# Altium footprint library PogoPinConnPitch2mm3PinSMDHorizontal.PcbLib: 1 footprints
Each footprint in its own frame and in the unit in brackets; x right, y up, seen from the top. Pads: shape width x height; smd on the part's side, far side on the other; paste and mask are expansions set on the pad; w line width, h text height; cw(c..) or ccw(c..) is an arc to the next point about the centre after c.
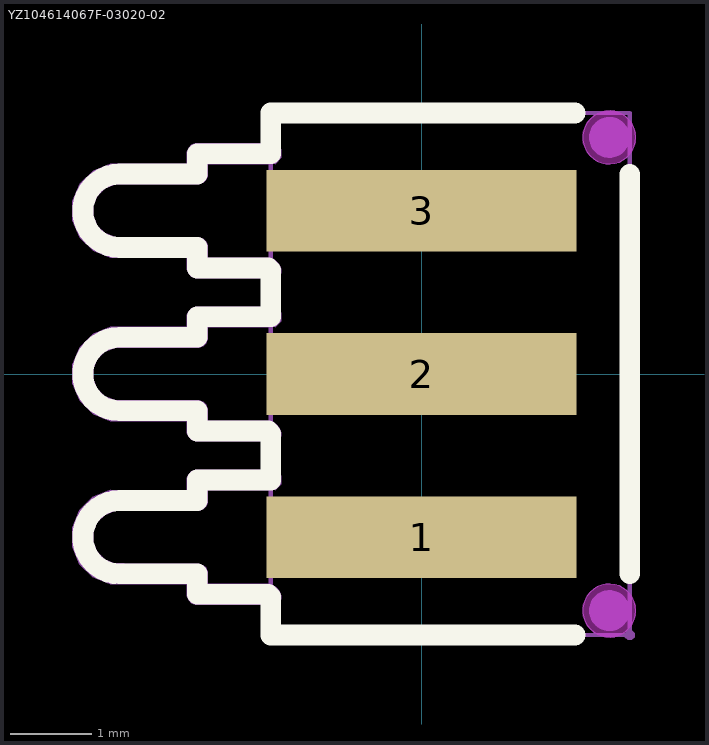
[diagram p0: the footprint, top view; thin cyan lines are the x and y axes]

## YZ104614067F-03020-02 [mm] "Pogo pin connector, Pitch 2mm, SMD, Rectangular Angle, 3 Pins, Male"
pads (3):
  rect 3.8x1 smd paste+0 mask+0.05: 1(0,-2) 2(0,0) 3(0,2)
Top Overlay:
  lines w0.254: -3.7,0.45 ccw(c-3.703,0) -3.7,-0.45 -2.75,-0.45 -2.75,-0.7 -1.881,-0.7 -1.85,-0.731 ; -3.7,0.45 -2.75,0.45 -2.75,0.7 -1.85,0.7 ; -1.85,-1.3 -2.75,-1.3 -2.75,-1.55 -3.7,-1.55 ccw(c-3.703,-2) -3.7,-2.45 -2.75,-2.45 -2.75,-2.7 -1.881,-2.7 -1.85,-2.731 -1.85,-3.2 1.878,-3.2 ; -1.85,-1.269 -1.85,-0.731 ; -1.85,0.731 -1.85,1.269 -1.881,1.3 -2.75,1.3 -2.75,1.55 -3.7,1.55 cw(c-3.703,2) -3.7,2.45 -2.75,2.45 -2.75,2.7 -1.85,2.7 ; -1.85,2.731 -1.85,3.2 1.878,3.2 ; 2.55,-2.446 2.55,2.447
Keep-Out Layer:
  board cut-out: 2.625,-2.9 2.625,-2.965 2.575,-3.084 2.484,-3.175 2.365,-3.225 2.235,-3.225 2.116,-3.175 2.024,-3.084 1.975,-2.965 1.975,-2.9 1.975,-2.835 2.024,-2.716 2.116,-2.624 2.235,-2.575 2.365,-2.575 2.484,-2.624 2.575,-2.716 2.625,-2.835
  board cut-out: 2.625,2.9 2.625,2.835 2.576,2.716 2.484,2.624 2.365,2.575 2.235,2.575 2.116,2.624 2.024,2.716 1.975,2.835 1.975,2.9 1.975,2.965 2.024,3.084 2.116,3.175 2.235,3.225 2.365,3.225 2.484,3.175 2.576,3.084 2.625,2.965
Keep-Out Layer:
  circle w0.005: c2.3,-2.9 r0.325
  circle w0.005: c2.3,2.9 r0.325
  region: 2.625,-2.9 2.625,-2.965 2.575,-3.084 2.484,-3.175 2.365,-3.225 2.235,-3.225 2.116,-3.175 2.024,-3.084 1.975,-2.965 1.975,-2.9 1.975,-2.835 2.024,-2.716 2.116,-2.624 2.235,-2.575 2.365,-2.575 2.484,-2.624 2.575,-2.716 2.625,-2.835
  region: 2.625,2.9 2.625,2.835 2.576,2.716 2.484,2.624 2.365,2.575 2.235,2.575 2.116,2.624 2.024,2.716 1.975,2.835 1.975,2.9 1.975,2.965 2.024,3.084 2.116,3.175 2.235,3.225 2.365,3.225 2.484,3.175 2.576,3.084 2.625,2.965
Mechanical 1:
  circle w0.005: c2.3,-2.9 r0.325
  circle w0.005: c2.3,2.9 r0.325
Mechanical 6:
  drawing of 11 lines, arcs and shapes, not listed
Mechanical 15:
  region: 2.61,-3.2 2.61,-3.225 2.575,-3.26 2.525,-3.26 2.49,-3.225 2.49,-3.2 2.49,-3.175 2.525,-3.14 2.575,-3.14 2.61,-3.175
  region: -1.85,1.6 -1.85,2.4 1.85,2.4 1.85,1.6
  region: -1.85,-0.4 -1.85,0.4 1.85,0.4 1.85,-0.4
  region: -1.85,-2.4 -1.85,-1.6 1.85,-1.6 1.85,-2.4
  lines w0.051: -1.85,-3.2 2.55,-3.2 2.55,3.2 -1.85,3.2 -1.85,-3.2